# Altium footprint library Passive.PcbLib: 74 footprints (part 2 of 5)
Each footprint in its own frame and in the unit in brackets; x right, y up, seen from the top. Pads: shape width x height; smd on the part's side, far side on the other; paste and mask are expansions set on the pad; w line width, h text height; cw(c..) or ccw(c..) is an arc to the next point about the centre after c.
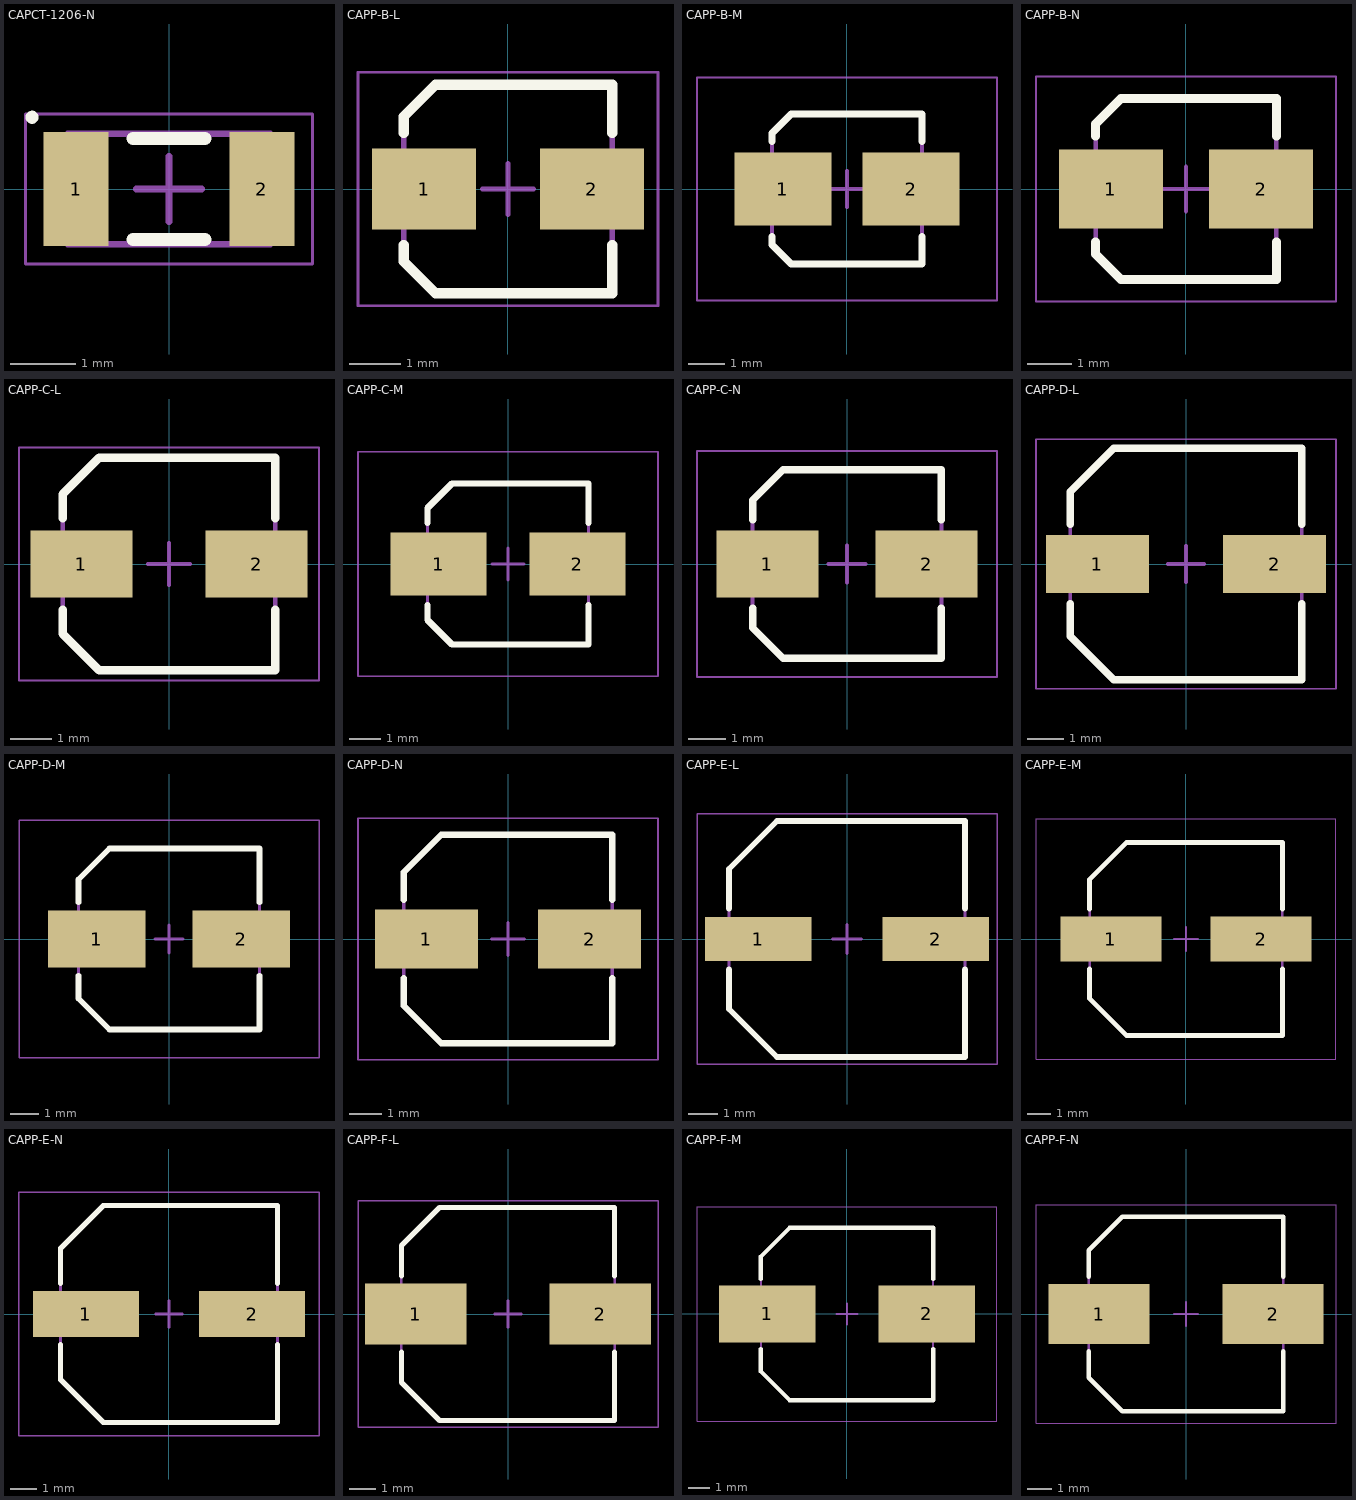
[diagram p1: the footprints below, top view; thin cyan lines are the x and y axes]

## CAPCT-1206-N [mm] "Chip Capacitor, 2-Leads, Body 3.05x1.60mm, IPC Medium Density"
height 0.6
pads (2):
  rect 1x1.75 smd: 1(-1.425,0) 2(1.425,0)
Top Overlay:
  circle w0.1: c-2.1,1.1 r0.05
  lines w0.2: -0.55,-0.775 0.55,-0.775 ; -0.55,0.775 0.55,0.775
Mechanical 13:
  lines w0.1: -1.55,-0.85 -1.55,0.85 1.55,0.85 1.55,-0.85 -1.55,-0.85
Mechanical 15:
  lines w0.05: -2.2,-1.15 -2.2,1.15 2.2,1.15 2.2,-1.15 -2.2,-1.15
  lines w0.1: -0.5,0 0.5,0 ; 0,-0.5 0,0.5
3D body "CAPC-1206-N.step": height 0.6, standoff 0, extent -1.55,-0.85 1.55,0.85

## CAPP-B-L [mm] "Aluminum Electrolytic Capacitor, Body 4.30x4.30x5.50mm, IPC High Density"
height 5.5
pads (2):
  rect 2.05x1.6 smd: 1(-1.65,0) 2(1.65,0)
Top Overlay:
  lines w0.2: -2.05,-1.1 -2.05,-1.425 -1.425,-2.05 2.05,-2.05 2.05,-1.1 ; -2.05,1.1 -2.05,1.425 -1.425,2.05 2.05,2.05 2.05,1.1
Mechanical 13:
  lines w0.1: -2.05,-1.425 -1.425,-2.05 2.05,-2.05 2.05,2.05 -1.425,2.05 -2.05,1.425 -2.05,-1.425
Mechanical 15:
  lines w0.05: -2.95,-2.3 -2.95,2.3 2.95,2.3 2.95,-2.3 -2.95,-2.3
  lines w0.1: -0.5,0 0.5,0 ; 0,-0.5 0,0.5
3D body "CAPP-B-L.step": height 5.5, standoff 0, extent -2.3,-2.05 2.3,2.05

## CAPP-B-M [mm] "Aluminum Electrolytic Capacitor, Body 4.30x4.30x5.50mm, IPC Low Density"
height 5.5
pads (2):
  rect 2.65x2 smd: 1(-1.75,0) 2(1.75,0)
Top Overlay:
  lines w0.2: -2.05,-1.3 -2.05,-1.525 -1.525,-2.05 2.05,-2.05 2.05,-1.3 ; -2.05,1.3 -2.05,1.525 -1.525,2.05 2.05,2.05 2.05,1.3
Mechanical 13:
  lines w0.1: -2.05,-1.525 -1.525,-2.05 2.05,-2.05 2.05,2.05 -1.525,2.05 -2.05,1.525 -2.05,-1.525
Mechanical 15:
  lines w0.05: -4.1,-3.05 -4.1,3.05 4.1,3.05 4.1,-3.05 -4.1,-3.05
  lines w0.1: -0.5,0 0.5,0 ; 0,-0.5 0,0.5
3D body "CAPP-B-M.step": height 5.5, standoff 0, extent -2.3,-2.05 2.3,2.05

## CAPP-B-N [mm] "Aluminum Electrolytic Capacitor, Body 4.30x4.30x5.50mm, IPC Medium Density"
height 5.5
pads (2):
  rect 2.35x1.8 smd: 1(-1.7,0) 2(1.7,0)
Top Overlay:
  lines w0.2: -2.05,-1.2 -2.05,-1.475 -1.475,-2.05 2.05,-2.05 2.05,-1.2 ; -2.05,1.2 -2.05,1.475 -1.475,2.05 2.05,2.05 2.05,1.2
Mechanical 13:
  lines w0.1: -2.05,-1.475 -1.475,-2.05 2.05,-2.05 2.05,2.05 -1.475,2.05 -2.05,1.475 -2.05,-1.475
Mechanical 15:
  lines w0.05: -3.4,-2.55 -3.4,2.55 3.4,2.55 3.4,-2.55 -3.4,-2.55
  lines w0.1: -0.5,0 0.5,0 ; 0,-0.5 0,0.5
3D body "CAPP-B-N.step": height 5.5, standoff 0, extent -2.3,-2.05 2.3,2.05

## CAPP-C-L [mm] "Aluminum Electrolytic Capacitor, Body 5.30x5.30x5.50mm, IPC High Density"
height 5.5
pads (2):
  rect 2.45x1.6 smd: 1(-2.1,0) 2(2.1,0)
Top Overlay:
  lines w0.2: -2.55,-1.1 -2.55,-1.675 -1.675,-2.55 2.55,-2.55 2.55,-1.1 ; -2.55,1.1 -2.55,1.675 -1.675,2.55 2.55,2.55 2.55,1.1
Mechanical 13:
  lines w0.1: -2.55,-1.675 -1.675,-2.55 2.55,-2.55 2.55,2.55 -1.675,2.55 -2.55,1.675 -2.55,-1.675
Mechanical 15:
  lines w0.05: -3.6,-2.8 -3.6,2.8 3.6,2.8 3.6,-2.8 -3.6,-2.8
  lines w0.1: -0.5,0 0.5,0 ; 0,-0.5 0,0.5
3D body "CAPP-C-L.step": height 5.5, standoff 0, extent -2.95,-2.55 2.95,2.55

## CAPP-C-M [mm] "Aluminum Electrolytic Capacitor, Body 5.30x5.30x5.50mm, IPC Low Density"
height 5.5
pads (2):
  rect 3.05x2 smd: 1(-2.2,0) 2(2.2,0)
Top Overlay:
  lines w0.2: -2.55,-1.3 -2.55,-1.775 -1.775,-2.55 2.55,-2.55 2.55,-1.3 ; -2.55,1.3 -2.55,1.775 -1.775,2.55 2.55,2.55 2.55,1.3
Mechanical 13:
  lines w0.1: -2.55,-1.775 -2.55,1.775 -1.775,2.55 2.55,2.55 2.55,-2.55 -1.775,-2.55 -2.55,-1.775
Mechanical 15:
  lines w0.05: -4.75,-3.55 4.75,-3.55 4.75,3.55 -4.75,3.55 -4.75,-3.55
  lines w0.1: -0.5,0 0.5,0 ; 0,-0.5 0,0.5
3D body "CAPP-C-M.step": height 5.5, standoff 0, extent -2.95,-2.55 2.95,2.55

## CAPP-C-N [mm] "Aluminum Electrolytic Capacitor, Body 5.30x5.30x5.50mm, IPC Medium Density"
height 5.5
pads (2):
  rect 2.75x1.8 smd: 1(-2.15,0) 2(2.15,0)
Top Overlay:
  lines w0.2: -2.55,-1.2 -2.55,-1.725 -1.725,-2.55 2.55,-2.55 2.55,-1.2 ; -2.55,1.2 -2.55,1.725 -1.725,2.55 2.55,2.55 2.55,1.2
Mechanical 13:
  lines w0.1: -2.55,-1.725 -2.55,1.725 -1.725,2.55 2.55,2.55 2.55,-2.55 -1.725,-2.55 -2.55,-1.725
Mechanical 15:
  lines w0.05: -4.05,-3.05 4.05,-3.05 4.05,3.05 -4.05,3.05 -4.05,-3.05
  lines w0.1: -0.5,0 0.5,0 ; 0,-0.5 0,0.5
3D body "CAPP-C-N.step": height 5.5, standoff 0, extent -2.95,-2.55 2.95,2.55

## CAPP-D-L [mm] "Aluminum Electrolytic Capacitor, Body 6.60x6.60x5.50mm, IPC High Density"
height 5.5
pads (2):
  rect 2.85x1.6 smd: 1(-2.45,0) 2(2.45,0)
Top Overlay:
  lines w0.2: -3.2,-1.1 -3.2,-2 -2,-3.2 3.2,-3.2 3.2,-1.1 ; -3.2,1.1 -3.2,2 -2,3.2 3.2,3.2 3.2,1.1
Mechanical 13:
  lines w0.1: -3.2,-2 -3.2,2 -2,3.2 3.2,3.2 3.2,-3.2 -2,-3.2 -3.2,-2
Mechanical 15:
  lines w0.05: -4.15,-3.45 4.15,-3.45 4.15,3.45 -4.15,3.45 -4.15,-3.45
  lines w0.1: -0.5,0 0.5,0 ; 0,-0.5 0,0.5
3D body "CAPP-D-L.step": height 10.5, standoff 0, extent -5.8,-5.05 5.8,5.05

## CAPP-D-M [mm] "Aluminum Electrolytic Capacitor, Body 6.60x6.60x5.50mm, IPC Low Density"
height 5.5
pads (2):
  rect 3.45x2 smd: 1(-2.55,0) 2(2.55,0)
Top Overlay:
  lines w0.2: -3.2,-1.3 -3.2,-2.1 -2.1,-3.2 3.2,-3.2 3.2,-1.3 ; -3.2,1.3 -3.2,2.1 -2.1,3.2 3.2,3.2 3.2,1.3
Mechanical 13:
  lines w0.1: -3.2,-2.1 -3.2,2.1 -2.1,3.2 3.2,3.2 3.2,-3.2 -2.1,-3.2 -3.2,-2.1
Mechanical 15:
  lines w0.05: -5.3,-4.2 5.3,-4.2 5.3,4.2 -5.3,4.2 -5.3,-4.2
  lines w0.1: -0.5,0 0.5,0 ; 0,-0.5 0,0.5
3D body "CAPP-D-M.step": height 5.5, standoff -0.8, extent -3.5,-3.2 3.5,3.2

## CAPP-D-N [mm] "Aluminum Electrolytic Capacitor, Body 6.60x6.60x5.50mm, IPC Medium Density"
height 5.5
pads (2):
  rect 3.15x1.8 smd: 1(-2.5,0) 2(2.5,0)
Top Overlay:
  lines w0.2: -3.2,-1.2 -3.2,-2.05 -2.05,-3.2 3.2,-3.2 3.2,-1.2 ; -3.2,1.2 -3.2,2.05 -2.05,3.2 3.2,3.2 3.2,1.2
Mechanical 13:
  lines w0.1: -3.2,-2.05 -3.2,2.05 -2.05,3.2 3.2,3.2 3.2,-3.2 -2.05,-3.2 -3.2,-2.05
Mechanical 15:
  lines w0.05: -4.6,-3.7 4.6,-3.7 4.6,3.7 -4.6,3.7 -4.6,-3.7
  lines w0.1: -0.5,0 0.5,0 ; 0,-0.5 0,0.5
3D body "CAPP-D-N.step": height 10.5, standoff 0, extent -5.8,-5.05 5.8,5.05

## CAPP-E-L [mm] "Aluminum Electrolytic Capacitor, Body 8.30x8.30x9.50mm, IPC High Density"
height 9.5
pads (2):
  rect 3.65x1.5 smd: 1(-3.05,0) 2(3.05,0)
Top Overlay:
  lines w0.2: -4.05,-1.05 -4.05,-2.4 -2.4,-4.05 4.05,-4.05 4.05,-1.05 ; -4.05,1.05 -4.05,2.4 -2.4,4.05 4.05,4.05 4.05,1.05
Mechanical 13:
  lines w0.1: -4.05,-2.4 -4.05,2.4 -2.4,4.05 4.05,4.05 4.05,-4.05 -2.4,-4.05 -4.05,-2.4
Mechanical 15:
  lines w0.05: -5.15,-4.3 5.15,-4.3 5.15,4.3 -5.15,4.3 -5.15,-4.3
  lines w0.1: -0.5,0 0.5,0 ; 0,-0.5 0,0.5
3D body "CAPP-E-L.step": height 9.5, standoff 0, extent -4.5,-4.05 4.5,4.05

## CAPP-E-M [mm] "Aluminum Electrolytic Capacitor, Body 8.30x8.30x9.50mm, IPC Low Density"
height 9.5
pads (2):
  rect 4.25x1.9 smd: 1(-3.15,0) 2(3.15,0)
Top Overlay:
  lines w0.2: -4.05,-1.25 -4.05,-2.5 -2.5,-4.05 4.05,-4.05 4.05,-1.25 ; -4.05,1.25 -4.05,2.5 -2.5,4.05 4.05,4.05 4.05,1.25
Mechanical 13:
  lines w0.1: -4.05,-2.5 -4.05,2.5 -2.5,4.05 4.05,4.05 4.05,-4.05 -2.5,-4.05 -4.05,-2.5
Mechanical 15:
  lines w0.05: -6.3,-5.05 6.3,-5.05 6.3,5.05 -6.3,5.05 -6.3,-5.05
  lines w0.1: -0.5,0 0.5,0 ; 0,-0.5 0,0.5
3D body "CAPP-E-M.step": height 9.5, standoff 0, extent -4.5,-4.05 4.5,4.05

## CAPP-E-N [mm] "Aluminum Electrolytic Capacitor, Body 8.30x8.30x9.50mm, IPC Medium Density"
height 9.5
pads (2):
  rect 3.95x1.7 smd: 1(-3.1,0) 2(3.1,0)
Top Overlay:
  lines w0.2: -4.05,-1.15 -4.05,-2.45 -2.45,-4.05 4.05,-4.05 4.05,-1.15 ; -4.05,1.15 -4.05,2.45 -2.45,4.05 4.05,4.05 4.05,1.15
Mechanical 13:
  lines w0.1: -4.05,-2.45 -4.05,2.45 -2.45,4.05 4.05,4.05 4.05,-4.05 -2.45,-4.05 -4.05,-2.45
Mechanical 15:
  lines w0.05: -5.6,-4.55 5.6,-4.55 5.6,4.55 -5.6,4.55 -5.6,-4.55
  lines w0.1: -0.5,0 0.5,0 ; 0,-0.5 0,0.5
3D body "CAPP-E-N.step": height 9.5, standoff 0, extent -4.5,-4.05 4.5,4.05

## CAPP-F-L [mm] "Aluminum Electrolytic Capacitor, Body 8.30x8.30x10.00mm, IPC High Density"
height 10
pads (2):
  rect 3.85x2.3 smd: 1(-3.5,0) 2(3.5,0)
Top Overlay:
  lines w0.2: -4.05,-1.45 -4.05,-2.6 -2.6,-4.05 4.05,-4.05 4.05,-1.45 ; -4.05,1.45 -4.05,2.6 -2.6,4.05 4.05,4.05 4.05,1.45
Mechanical 13:
  lines w0.1: -4.05,-2.6 -4.05,2.6 -2.6,4.05 4.05,4.05 4.05,-4.05 -2.6,-4.05 -4.05,-2.6
Mechanical 15:
  lines w0.05: -5.7,-4.3 5.7,-4.3 5.7,4.3 -5.7,4.3 -5.7,-4.3
  lines w0.1: -0.5,0 0.5,0 ; 0,-0.5 0,0.5
3D body "CAPP-F-L.step": height 10, standoff 0, extent -4.95,-4.05 4.95,4.05

## CAPP-F-M [mm] "Aluminum Electrolytic Capacitor, Body 8.30x8.30x10.00mm, IPC Low Density"
height 10
pads (2):
  rect 4.55x2.7 smd: 1(-3.75,0) 2(3.75,0)
Top Overlay:
  lines w0.2: -4.05,-1.65 -4.05,-2.7 -2.7,-4.05 4.05,-4.05 4.05,-1.65 ; -4.05,1.65 -4.05,2.7 -2.7,4.05 4.05,4.05 4.05,1.65
Mechanical 13:
  lines w0.1: -4.05,-2.7 -4.05,2.7 -2.7,4.05 4.05,4.05 4.05,-4.05 -2.7,-4.05 -4.05,-2.7
Mechanical 15:
  lines w0.05: -7.05,-5.05 7.05,-5.05 7.05,5.05 -7.05,5.05 -7.05,-5.05
  lines w0.1: -0.5,0 0.5,0 ; 0,-0.5 0,0.5
3D body "CAPP-F-M.step": height 10, standoff 0, extent -4.95,-4.05 4.95,4.05

## CAPP-F-N [mm] "Aluminum Electrolytic Capacitor, Body 8.30x8.30x10.00mm, IPC Medium Density"
height 10
pads (2):
  rect 4.2x2.5 smd: 1(-3.625,0) 2(3.625,0)
Top Overlay:
  lines w0.2: -4.05,-1.55 -4.05,-2.65 -2.65,-4.05 4.05,-4.05 4.05,-1.55 ; -4.05,1.55 -4.05,2.65 -2.65,4.05 4.05,4.05 4.05,1.55
Mechanical 13:
  lines w0.1: -4.05,-2.65 -2.65,-4.05 4.05,-4.05 4.05,4.05 -2.65,4.05 -4.05,2.65 -4.05,-2.65
Mechanical 15:
  lines w0.05: -6.25,-4.55 -6.25,4.55 6.25,4.55 6.25,-4.55 -6.25,-4.55
  lines w0.1: -0.5,0 0.5,0 ; 0,-0.5 0,0.5
3D body "CAPP-F-N.step": height 10, standoff 0, extent -4.95,-4.05 4.95,4.05